# Altium schematic symbol library PCB-Tester-Board-V1.SCHLIB: 111 symbols (part 1 of 3)
Pins are listed as number, name and electrical type; pins without a type are passive.

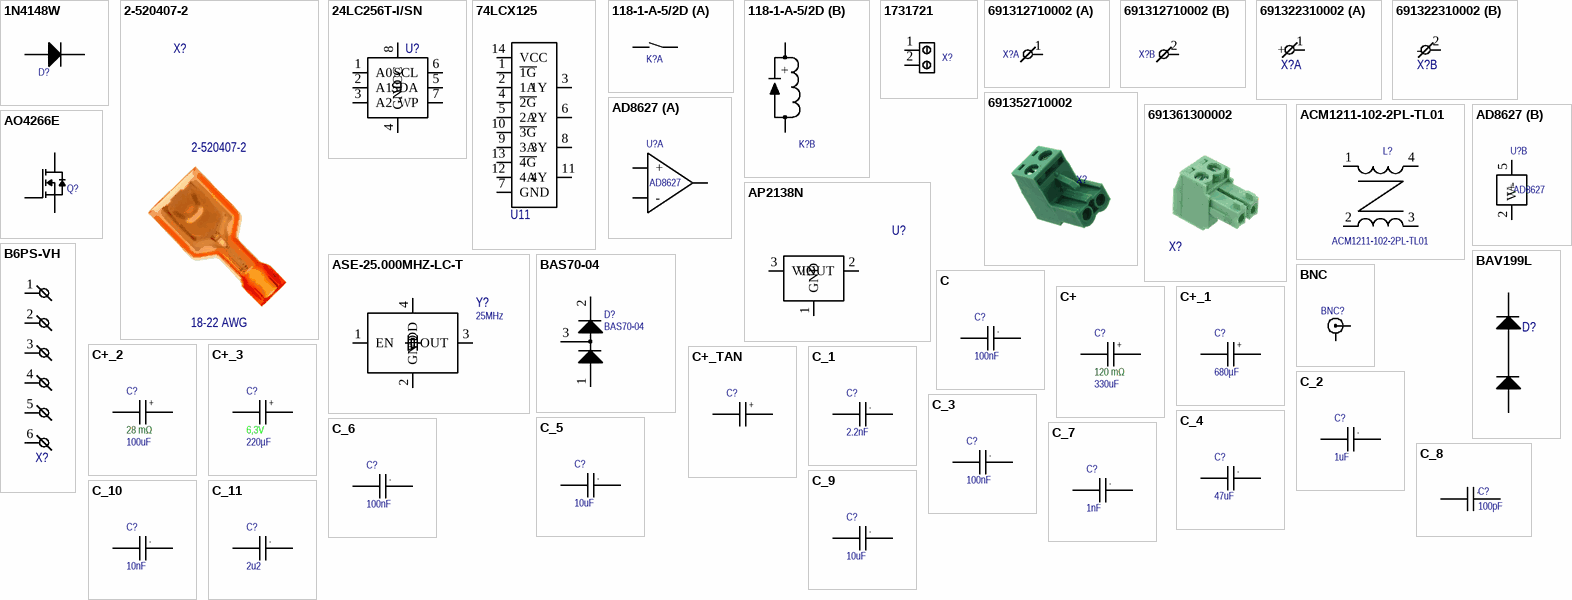
[diagram p0: symbols 1N4148W to C_11]

## 1N4148W
designator D?, comment D  (value not drawn)
DIODE SILICON 100V 2A SOD123; 07. Manufacturer  Part Number: 1N4148W; 11. RoHS: YES; ComponentLink1Description: Info; ComponentLink1URL: https://www.digikey.de/product-detail/en/nexperia-usa-inc/PMEG4050EP115/1727-5842-6-ND/2697559; ComponentLink2Description: DataSheet; ComponentLink2URL: https://assets.nexperia.com/documents/data-sheet/PMEG4050EP.pdf
footprint SOD123
pins: 1 A, 2 C

## 2-520407-2
designator X?  Package: 18-22 AWG  (hidden comment: 2-520407-2)
0.250" (6.35mm) Quick Connect Female; 04. Manufacturer: TE Connectivity AMP Connectors; 03. Unit Price: 0.38; 13. Created Date/Name: AUG 2018 / Hören; 01. Distributor: DigiKey; 02. Distributor Part Number: A27854-ND; 11. RoHS: YES; ComponentLink1Description: Info; ComponentLink1URL: https://www.digikey.de/products/en?keywords=2-520407-2; ComponentLink2Description: DataSheet; ComponentLink2URL: https://www.te.com/commerce/DocumentDelivery/DDEController?Action=srchrtrv&DocNm=520407&DocType=Customer+Drawing&DocLang=English; 07. Manufacturer  Part Number: 2-520407-2

## 24LC256T-I/SN
designator U?, comment U  (value not drawn)
IC EEPROM 256K I2C 400KHZ 8SOIC; 04. Manufacturer: Microchip Technology; 07. Manufacturer  Part Number: 24LC256T-I/SN; 03. Unit Price: 0.71; 13. Created Date/Name: AUG 2018 / Hören; 01. Distributor: DigiKey; 02. Distributor Part Number: 24LC256T-I/SNDKR-ND; 11. RoHS: YES; ComponentLink1Description: Info; ComponentLink1URL: https://www.digikey.de/product-detail/en/microchip-technology/24LC256T-I-SN/24LC256T-I-SNDKR-ND/1850685; ComponentLink2Description: DataSheet; ComponentLink2URL: http://ww1.microchip.com/downloads/en/DeviceDoc/24AA256-24LC256-24FC256-Data-Sheet-20001203W.pdf; Package: SOIC8
footprint SOIC8 (R-8) (Generic 8 lead SOIC Narrow Body)
pins: 1 A0, 2 A1, 3 A2, 4 GND (power), 5 SDA, 6 SCL, 7 WP, 8 VCC (power)

## 74LCX125
designator U11, comment U  (value not drawn)
IC BUF NON-INVERT 3.6V 14TSSOP; 04. Manufacturer: STMicroelectronics; 07. Manufacturer  Part Number: 74LCX125YTTR; 01. Distributor: DigiKey; 02. Distributor Part Number: 497-13204-2-ND; 11. RoHS: YES; ComponentLink1Description: Info; ComponentLink2Description: DataSheet; Package: TSSOP14
footprint TSSOP14
pins: 1 ~{1G}, 2 1A, 3 1Y, 4 ~{2G}, 5 2A, 6 2Y, 7 GND, 8 3Y, 9 3A, 10 ~{3G}, 11 4Y, 12 4A, 13 ~{4G}, 14 VCC

## 118-1-A-5/2D
designator K?, comment K  (value not drawn)
5V Signal Relais, Normal Open; 04. Manufacturer: Pickering; 07. Manufacturer  Part Number: 118-1-A-5/2D; 03. Unit Price: 2.60; 05. Quantity: 1000; 06. Data Sheet: Pickering_series_118.pdf; 13. Created Date/Name: 20.12.17 S. Kaiser; Coil Resistance: 1500 Ohm; Max Carry Current: 1.2 A; Max Switch Current: 1A; Max Switch Voltage: 200V; Power Rating: 15W; 01. Distributor: Pickering; 02. Distributor Part Number: 118-1-A-5/2D; 09. Operating Temperature: -20°C ~ +85°C; 11. RoHS: 2011/65/EU; ComponentLink1Description: Info; ComponentLink1URL: http://www.pickeringrelay.com/; ComponentLink2Description: DataSheet; ComponentLink2URL: https://www.pickeringrelay.com/products/single-line-sil-series-111-119/single-line-sil-series-118/; Coil Voltage: 5V
footprint 118-1A (ATE Relay (NO))
part A pins: 3 CA, 4 CB
part B pins: 1 +, 2 -
1 alternate drawing of the same symbol

## 1731721
designator X?, comment X  (value not drawn)
TERM BLK 2P SIDE ENT 7.62MM PCB; 04. Manufacturer: Phoenix Contact; 07. Manufacturer  Part Number: 1731721; 03. Unit Price: 2.12; 13. Created Date/Name: JAN 2019 / Hören; System: Connector; 01. Distributor: DigiKey; 02. Distributor Part Number: 277-5849-ND; 11. RoHS: YES; ComponentLink1Description: Info; ComponentLink1URL: https://www.digikey.de/products/en?keywords=1731721; ComponentLink2Description: DataSheet; ComponentLink2URL: https://media.digikey.com/pdf/Data%20Sheets/Phoenix%20Contact%20PDFs/1731721.pdf
footprint 1731721 (TERM BLK 2P SIDE ENT 7.62MM PCB)
pins: 1, 2

## 691312710002
designator X?, comment X  (value not drawn)
TERM BLOCK HDR 2POS 90DEG 5MM; 04. Manufacturer: Würth Elektronik; 07. Manufacturer  Part Number: 691312710002; 03. Unit Price: 0.244; 13. Created Date/Name: ??? / Hören; System: Connector; 01. Distributor: DigiKey; 02. Distributor Part Number: 732-2805-ND; ComponentLink1Description: Info; ComponentLink2Description: DataSheet
footprint 691312710002 (TERM BLOCK HDR 2POS 90DEG 5MM)
part A pins: 1 +
part B pins: 2 -

## 691322310002
designator X?, comment X  (value not drawn)
TERM BLOCK HDR 2POS 90DEG 3.81MM; 04. Manufacturer: Würth Elektronik; 07. Manufacturer  Part Number: 691322310002; 03. Unit Price: 0.32; 13. Created Date/Name: ??? / Hören; System: Connector; 01. Distributor: DigiKey; 02. Distributor Part Number: 732-2088-ND; 11. RoHS: YES; ComponentLink1Description: Info; ComponentLink1URL: https://www.digikey.de/products/en?keywords=691322310002; ComponentLink2Description: DataSheet; ComponentLink2URL: https://media.digikey.com/pdf/Data%20Sheets/Wurth%20Electronics%20PDFs/Terminal%20Blocks%20WR-TBL.pdf
footprint 691322310002 (TERM BLOCK HDR 2POS 90DEG 3.81MM)
part A pins: 1 +
part B pins: 2 -

## 691352710002
designator X?, comment X  (value not drawn)
TERM BLOCK PLUG 2POS STR 5MM; 13. Created Date/Name: ??? / Hören; System: Connector; ComponentLink1Description: Info; ComponentLink1URL: https://www.digikey.de/products/en?keywords=691352710002; ComponentLink2Description: DataSheet; ComponentLink2URL: https://www.we-online.de/katalog/datasheet/6913527100xx.pdf
footprint 691352710002 (TERM BLOCK PLUG 2POS STR 5MM)

## 691361300002
designator X?, comment X  (value not drawn)
TERM BLOCK PLUG 2POS STR 3.81MM; 13. Created Date/Name: ??? / Hören; System: Connector; ComponentLink1Description: Info; ComponentLink1URL: https://www.digikey.de/products/en?keywords=691361300002; ComponentLink2Description: DataSheet; ComponentLink2URL: https://media.digikey.com/pdf/Data%20Sheets/Wurth%20Electronics%20PDFs/Terminal%20Blocks%20WR-TBL.pdf
footprint 691361300002 (TERM BLOCK PLUG 2POS STR 3.81MM)

## ACM1211-102-2PL-TL01
designator L?, comment 07. Manufacturer  Part Number: ACM1211-102-2PL-TL01  (hidden comment: L)
CMC 6A 2LN 1 KOHM SMD; 04. Manufacturer: TDK; 03. Unit Price: 0.953; 05. Quantity: 500; 13. Created Date/Name: AUG 2018 / Hören; Type: Power Line; Voltage Rating: 80V; DCR: 14mOhm; 3D-Export: No; 01. Distributor: DigiKey; 02. Distributor Part Number: 445-2213-2-ND; 09. Operating Temperature: -40°C ~ 85°C; 11. RoHS: YES; ComponentLink1Description: Info; ComponentLink1URL: https://www.digikey.de/product-detail/en/tdk-corporation/ACM1211-102-2PL-TL01/445-2213-2-ND/765031; ComponentLink2Description: DataSheet; ComponentLink2URL: https://product.tdk.com/info/en/catalog/datasheets/cmf_commercial_power_acm1211_en.pdf; Current Rating: 6A
footprint ACM1211
pins: 1, 2, 3, 4

## AD8627
designator U?, comment Part: AD8627  (hidden comment: U)
IC OPAMP JFET 5MHZ RRO SC70-5; 04. Manufacturer: Analog Devices Inc.; 07. Manufacturer  Part Number: AD8627AKSZ-R2; 03. Unit Price: 5.15; 13. Created Date/Name: AUG 2018 / Hören; 01. Distributor: DigiKey; 02. Distributor Part Number: AD8627AKSZ-R2DKR-ND; 09. Operating Temperature: -40°C ~ 85°C; 11. RoHS: YES; ComponentLink1Description: Info; ComponentLink1URL: https://www.digikey.de/product-detail/en/analog-devices-inc/AD8627AKSZ-R2/AD8627AKSZ-R2DKR-ND/3878640; ComponentLink2Description: DataSheet; ComponentLink2URL: http://www.analog.com/media/en/technical-documentation/data-sheets/AD8625_8626_8627.pdf; Package: SC70-5
footprint SC70-5
simulation model AD8627 (Model Description)
part A pins: 1 Out, 3 +, 4 -
part B pins: 2 V-, 5 V+

## AO4266E
designator Q?, comment Q  (value not drawn)
MOSFET N-CH 60V 8.5A SO8; 04. Manufacturer: Alpha&Omega; 07. Manufacturer  Part Number: AO4266E; 11. RoHS: YES; ComponentLink1Description: Info; ComponentLink1URL: https://www.digikey.de/product-detail/en/on-semiconductor/FDV303N/FDV303NDKR-ND/1630434; ComponentLink2Description: DataSheet; ComponentLink2URL: https://media.digikey.com/pdf/Data%20Sheets/Fairchild%20PDFs/FDV303N.pdf
footprint SOIC-8_MOSFET (8 lead SOIC with pin numbering for MOSFET)
pins: 1 G, 2 S, 3 D

## AP2138N
designator U?, comment U  (value not drawn)
IC REG LINEAR 1.8V 250MA SOT23-3; 04. Manufacturer: Diodes Incorporated; 07. Manufacturer  Part Number: AP2138N-1.8TRG1; 01. Distributor: DigiKey; 02. Distributor Part Number: AP2138N-1.8TRG1DICT-ND; 11. RoHS: YES; ComponentLink1Description: Info; ComponentLink2Description: DataSheet
footprint SOT23-3
pins: 1 GND, 2 VOUT, 3 VIN

## ASE-25.000MHZ-LC-T
designator Y?, comment Frequency: 25MHz  (hidden comment: Y)
XTAL OSC XO 25.0000MHZ CMOS SMD; 04. Manufacturer: Abracon LLC; 07. Manufacturer  Part Number: ASE-25.000MHZ-LC-T; 03. Unit Price: 1.46; 13. Created Date/Name: AUG 2018 / Hören; 01. Distributor: DigiKey; 02. Distributor Part Number: 535-9568-1-ND; 11. RoHS: YES; ComponentLink1Description: Info; ComponentLink1URL: https://www.digikey.de/products/en?keywords=535-9568-1-ND; ComponentLink2Description: DataSheet; Package: 4SMD
footprint 4SMD
pins: 1 EN, 2 GND, 3 OUT, 4 VDD

## B6PS-VH
designator X?, comment X  (value not drawn)
CONN HEADER R/A 6POS 3.96MM; 04. Manufacturer: JST Sales America Inc.; 07. Manufacturer  Part Number: B6PS-VH(LF)(SN); 03. Unit Price: 0.38; 13. Created Date/Name: AUG 2018 / Hören; System: Connector; 01. Distributor: DigiKey; 02. Distributor Part Number: 455-1652-ND; 09. Operating Temperature: -25°C ~ 85°C; 11. RoHS: YES; ComponentLink1Description: Info; ComponentLink1URL: https://www.digikey.de/product-detail/en/jst-sales-america-inc/B6PS-VH-LF-SN/455-1652-ND/926559; ComponentLink2Description: DataSheet; ComponentLink2URL: http://www.jst-mfg.com/product/pdf/eng/eVH.pdf
footprint B6PS-VH (CONN HEADER R/A 6POS 3.96MM)
footprint B6PS-VH+ (CONN HEADER R/A 6POS 3.96MM + CONNECTOR)
pins: 1, 2, 3, 4, 5, 6

## BAS70-04
designator D?, comment 07. Manufacturer  Part Number: BAS70-04  (hidden comment: D)
DIODE ARRAY SCHOTTKY 70V SOT23-3; 04. Manufacturer: DIODES Inc; 03. Unit Price: 0.22; 05. Quantity: 1; 13. Created Date/Name: AUG 2018 / Hören; ComponentLink1Description: Info; ComponentLink1URL: https://www.digikey.de/products/en?keywords=BAS70-04-FDITR-ND; 01. Distributor: DigiKey; 02. Distributor Part Number: BAS70-04-FDITR-ND; 09. Operating Temperature: -55°C ~ 125°C; 11. RoHS: YES; ComponentLink4Description: DataSheet; ComponentLink4URL: https://www.diodes.com/assets/Datasheets/ds11007.pdf
footprint SOT23-3
pins: 1, 2, 3
1 alternate drawing of the same symbol

## BAV199L
designator D?, comment D  (value not drawn)
DIODE ARRAY GP 70V 215MA SOT23-3; 04. Manufacturer: ON Semiconductor; 07. Manufacturer  Part Number: BAV199LT1G; 03. Unit Price: 0.19; 13. Created Date/Name: AUG 2018 / Hören; NicName: BAV199L; 01. Distributor: DigiKey; 02. Distributor Part Number: BAV199LT1GOSDKR-ND; 09. Operating Temperature: -65°C ~ 150°C; 11. RoHS: YES; ComponentLink1Description: Info; ComponentLink1URL: https://www.digikey.de/product-detail/en/on-semiconductor/BAV199LT1G/BAV199LT1GOSDKR-ND/1831717; ComponentLink2Description: DataSheet; ComponentLink2URL: http://www.onsemi.com/pub/Collateral/BAV199LT1-D.PDF; Package: SOT23-3
footprint SOT23-3
pins: 1 A, 2 C, 3 C/A

## BNC
designator BNC?, comment X  (value not drawn)
BNC Connector; 07. Manufacturer  Part Number: [see model description]; 13. Created Date/Name: AUG 2018 / Hören; ComponentLink1Description: Info; 01. Distributor: DigiKey; ComponentLink2Description: DataSheet; ComponentLink3Description: FootPrint; System: Connector
footprint BNC (112778)
footprint BNC mini (0731000105)
pins: 0, 1

## C
designator C?  value 100nF  (hidden comment: C)
CAP CER 0.1UF 16V X7R 0402; 04. Manufacturer: KEMET; 07. Manufacturer  Part Number: C0402C104J4RACTU; Tolerance: ±5%; 03. Unit Price: 0.45; 13. Created Date/Name: AUG2018/Hören; Voltage Rating: 16V; Type: X7R; ComponentLink1Description: Info; ComponentLink1URL: https://www.digikey.de/product-detail/en/kemet/C0402C104J4RACTU/399-7761-6-ND/3472292; 02. Distributor Part Number: 399-7761-6-ND; 09. Operating Temperature: -55°C ~ 125°C; 11. RoHS: YES; 01. Distributor: DigiKey; ComponentLink2Description: DataSheet; ComponentLink2URL: https://content.kemet.com/datasheets/KEM_C1002_X7R_SMD.pdf; Package: 0402
simulation model CAP (Capacitor)
signal-integrity model Cap
footprint C0201 Reflow (SMT Capacitor 0201 Reflow Soldering)
footprint C0402 Reflow (SMT CAP 0402 Reflow Soldering)
footprint C0603 Reflow (SMT Capacitor 0603 Reflow Soldering)
footprint C0603 Wave (SMT Capacitor 0603 Wave Soldering)
footprint C0805 Reflow (SMT Capacitor 0805 Reflow Soldering)
footprint C0805 Wave (SMT Capacitor 0805 Wave Soldering)
footprint Model Name (Footprint not found)
footprint Model Name (Footprint not found)
footprint C1206 Reflow (SMT Capacitor 1206 Reflow Soldering)
footprint C1206 Wave (SMT Capacitor 1206 Wave Soldering)
footprint C1210 Reflow (SMT Capacitor 1210 Reflow Soldering)
footprint C1210 Wave (SMT Capacitor 1210 Wave Soldering)
footprint C1632 Reflow (SMT Capacitor 1632 Reflow Soldering)
footprint C1632 Wave (SMT Capacitor 1632 Wave Soldering)
footprint C1808 Reflow (SMT Capacitor 1808 Reflow Soldering)
footprint C1808 Wave (SMT Capacitor 1808 Wave Soldering)
footprint C1825 Reflow (SMT Capacitor 1825 Reflow Soldering)
footprint C1825 Wave (SMT Capacitor 1825 Wave Soldering)
footprint C2220 Reflow (SMT Capacitor 2220 Reflow Soldering)
footprint C2220 Wave (SMT Capacitor 2220 Wave Soldering)
footprint C2225 Reflow (SMT Capacitor 2225 Reflow Soldering)
footprint C2225 Wave (SMT Capacitor 2225 Wave Soldering)
pins: 1, 2
text: .

## C+
designator C?  value 330uF  ESR: 120 mΩ  (hidden comment: C+)
CAP ALUM 330UF 20% 50V SMD; 04. Manufacturer: Panasonic Electronic Components; 07. Manufacturer  Part Number: EEE-FT1H331AP; 03. Unit Price: 0.96; 13. Created Date/Name: AUG2018/Hören; 3D-Export: No; ComponentLink1Description: Info; ComponentLink1URL: https://www.digikey.de/product-detail/en/panasonic-electronic-components/EEE-FT1H331AP/PCE5026DKR-ND/2652105; Tolerance: ±20%; Voltage Rating: 50V; 02. Distributor Part Number: PCE5026DKR-ND; 09. Operating Temperature: -55°C ~ 105°C; 11. RoHS: YES; 01. Distributor: DigiKey; ComponentLink2Description: DataSheet; ComponentLink2URL: https://industrial.panasonic.com/cdbs/www-data/pdf/RDE0000/ABA0000C1240.pdf
simulation model CAP (Capacitor)
signal-integrity model Cap
footprint SMD-CAP-ALU-A (Ø3.0mm x 5.4mm)
footprint SMD-CAP-ALU-B (Ø4.0mm x 5.4mm)
footprint SMD-CAP-ALU-C (Ø5.0mm x 5.4mm)
footprint SMD-CAP-ALU-D (Ø6.3mm x 5.4mm)
footprint SMD-CAP-ALU-D8 (Ø6.3mm x 7.7mm)
footprint SMD-CAP-ALU-E (Ø8.0mm x 6.2mm)
footprint SMD-CAP-ALU-F (Ø8.0mm x 10.2mm)
footprint SMD-CAP-ALU-G (Ø10.0mm x 10.2mm)
footprint SMD-CAP-ALU-G13 (Ø10.0mm x 13.5mm)
footprint SMD-CAP-ALU-G17 (Ø10.0mm x 16.5mm)
footprint SMD-CAP-ALU-H16 (Ø12.5mm x 16.5mm)
footprint SMD-CAP-ALU-K16 (Ø18mm x 16.5mm)
pins: 1, 2
text: +

## C+_1
designator C?, comment value 680µF  (hidden comment: C+)
CAP ALUM 680UF 20% 50V SMD; 04. Manufacturer: Panasonic Electronic Components; 07. Manufacturer  Part Number: EEV-FK1H681M; ESR: 73 mΩ; Type: Radial, Can - SMD; 03. Unit Price: 1.69; 13. Created Date/Name: AUG2018/Hören; Lifetime @ Temp: 5000 Hrs @ 105°C; 3D-Export: No; ComponentLink1Description: Info; ComponentLink1URL: https://www.digikey.de/product-detail/en/panasonic-electronic-components/EEV-FK1H681M/PCE3523DKR-ND/1838505; Tolerance: ±20%; Voltage Rating: 50V; 02. Distributor Part Number: PCE3523DKR-ND; 09. Operating Temperature: -55°C ~ 105°C; 11. RoHS: YES; 01. Distributor: DigiKey; ComponentLink2Description: DataSheet; ComponentLink2URL: https://industrial.panasonic.com/cdbs/www-data/pdf/RDE0000/ABA0000C1181.pdf; Package: Ø16 mm x 16.5mm
simulation model CAP (Capacitor)
signal-integrity model Cap
footprint SMD-CAP-ALU-A (Ø3.0mm x 5.4mm)
footprint SMD-CAP-ALU-B (Ø4.0mm x 5.4mm)
footprint SMD-CAP-ALU-C (Ø5.0mm x 5.4mm)
footprint SMD-CAP-ALU-D (Ø6.3mm x 5.4mm)
footprint SMD-CAP-ALU-D8 (Ø6.3mm x 7.7mm)
footprint SMD-CAP-ALU-E (Ø8.0mm x 6.2mm)
footprint SMD-CAP-ALU-F (Ø8.0mm x 10.2mm)
footprint SMD-CAP-ALU-G (Ø10.0mm x 10.2mm)
footprint SMD-CAP-ALU-G13 (Ø10.0mm x 13.5mm)
footprint SMD-CAP-ALU-G17 (Ø10.0mm x 16.5mm)
footprint SMD-CAP-ALU-H16 (Ø12.5mm x 16.5mm)
footprint SMD-CAP-ALU-K16 (Ø18mm x 16.5mm)
footprint SMD-CAP-ALU-J16 (Ø16mm x 16.5mm)
pins: 1, 2
text: +

## C+_2
designator C?, comment value 100uF  ESR: 28 mΩ  (hidden comment: C+)
CAP ALUM POLY HYB 100UF 50V SMD; 04. Manufacturer: Panasonic Electronic Components; 07. Manufacturer  Part Number: EEH-ZA1H101P; Tolerance: ±20%; 03. Unit Price: 2.5; 13. Created Date/Name: AUG2018/Hören; 3D-Export: No; ComponentLink1Description: Info; ComponentLink1URL: https://www.digikey.de/product-detail/en/panasonic-electronic-components/EEH-ZA1H101P/P15442DKR-ND/3088152; Voltage Rating: 50V; 02. Distributor Part Number: P15442DKR-ND; 09. Operating Temperature: -55°C ~ 105°C; 11. RoHS: YES; 01. Distributor: DigiKey; ComponentLink2Description: DataSheet; ComponentLink2URL: https://industrial.panasonic.com/cdbs/www-data/pdf/RDD0000/ABA0000C1221.pdf
simulation model CAP (Capacitor)
signal-integrity model Cap
footprint SMD-CAP-ALU-A (Ø3.0mm x 5.4mm)
footprint SMD-CAP-ALU-B (Ø4.0mm x 5.4mm)
footprint SMD-CAP-ALU-C (Ø5.0mm x 5.4mm)
footprint SMD-CAP-ALU-D (Ø6.3mm x 5.4mm)
footprint SMD-CAP-ALU-D8 (Ø6.3mm x 7.7mm)
footprint SMD-CAP-ALU-E (Ø8.0mm x 6.2mm)
footprint SMD-CAP-ALU-F (Ø8.0mm x 10.2mm)
footprint SMD-CAP-ALU-G (Ø10.0mm x 10.2mm)
footprint SMD-CAP-ALU-G13 (Ø10.0mm x 13.5mm)
footprint SMD-CAP-ALU-G17 (Ø10.0mm x 16.5mm)
footprint SMD-CAP-ALU-H16 (Ø12.5mm x 16.5mm)
footprint SMD-CAP-ALU-K16 (Ø18mm x 16.5mm)
pins: 1, 2
text: +

## C+_3
designator C?, comment value 220µF  Voltage Rating: 6,3V  (hidden comment: C+)
CAP ALUM 220UF 20% 6.3V SMD; 04. Manufacturer: Panasonic Electronic Components; 07. Manufacturer  Part Number: EEE-FC0J221P; ESR: 400 mΩ; Type: Radial, Can - SMD; 03. Unit Price: 0.57; 13. Created Date/Name: AUG2018/Hören; Lifetime @ Temp: 1000 Hrs @ 105°C; 3D-Export: No; ComponentLink1Description: Info; ComponentLink1URL: https://www.digikey.de/product-detail/en/panasonic-electronic-components/EEE-FC0J221P/PCE3985DKR-ND/1806511; Tolerance: ±20%; 02. Distributor Part Number: PCE3985DKR-ND; 09. Operating Temperature: -40°C ~ 105°C; 11. RoHS: YES; 01. Distributor: DigiKey; ComponentLink2Description: DataSheet; ComponentLink2URL: https://industrial.panasonic.com/cdbs/www-data/pdf/RDE0000/ABA0000C1172.pdf; Package: Ø8mm x 6.2mm
simulation model CAP (Capacitor)
signal-integrity model Cap
footprint SMD-CAP-ALU-A (Ø3.0mm x 5.4mm)
footprint SMD-CAP-ALU-B (Ø4.0mm x 5.4mm)
footprint SMD-CAP-ALU-C (Ø5.0mm x 5.4mm)
footprint SMD-CAP-ALU-D (Ø6.3mm x 5.4mm)
footprint SMD-CAP-ALU-D8 (Ø6.3mm x 7.7mm)
footprint SMD-CAP-ALU-E (Ø8.0mm x 6.2mm)
footprint SMD-CAP-ALU-F (Ø8.0mm x 10.2mm)
footprint SMD-CAP-ALU-G (Ø10.0mm x 10.2mm)
footprint SMD-CAP-ALU-G13 (Ø10.0mm x 13.5mm)
footprint SMD-CAP-ALU-G17 (Ø10.0mm x 16.5mm)
footprint SMD-CAP-ALU-H16 (Ø12.5mm x 16.5mm)
footprint SMD-CAP-ALU-K16 (Ø18mm x 16.5mm)
pins: 1, 2
text: +

## C+_TAN
designator C?, comment C+  (value not drawn)
3D-Export: No; ComponentLink1Description: Info; 11. RoHS: YES; 01. Distributor: DigiKey; ComponentLink2Description: DataSheet
footprint CAP_TAN_B (Tantalum capacitor in case B)
pins: 1, 2
text: +

## C_1
designator C?, comment value 2.2nF  (hidden comment: C)
CAP CER 2200PF 50V X7R 0402; 04. Manufacturer: Samsung Electro-Mechanics; 07. Manufacturer  Part Number: CL05B222JB5NNNC; Tolerance: ±5%; 03. Unit Price: 0.09; 13. Created Date/Name: AUG2018/Hören; Voltage Rating: 50V; Type: X7R; ComponentLink1Description: Info; ComponentLink1URL: https://www.digikey.de/product-detail/en/samsung-electro-mechanics/CL05B222JB5NNNC/1276-1532-6-ND/3892046; 02. Distributor Part Number: 1276-1532-6-ND; 09. Operating Temperature: -55°C ~ 125°C; 11. RoHS: YES; 01. Distributor: DigiKey; ComponentLink2Description: DataSheet; Package: 0402
simulation model CAP (Capacitor)
signal-integrity model Cap
footprint C0201 Reflow (SMT Capacitor 0201 Reflow Soldering)
footprint C0402 Reflow (SMT CAP 0402 Reflow Soldering)
footprint C0603 Reflow (SMT Capacitor 0603 Reflow Soldering)
footprint C0603 Wave (SMT Capacitor 0603 Wave Soldering)
footprint C0805 Reflow (SMT Capacitor 0805 Reflow Soldering)
footprint C0805 Wave (SMT Capacitor 0805 Wave Soldering)
footprint Model Name (Footprint not found)
footprint Model Name (Footprint not found)
footprint C1206 Reflow (SMT Capacitor 1206 Reflow Soldering)
footprint C1206 Wave (SMT Capacitor 1206 Wave Soldering)
footprint C1210 Reflow (SMT Capacitor 1210 Reflow Soldering)
footprint C1210 Wave (SMT Capacitor 1210 Wave Soldering)
footprint C1632 Reflow (SMT Capacitor 1632 Reflow Soldering)
footprint C1632 Wave (SMT Capacitor 1632 Wave Soldering)
footprint C1808 Reflow (SMT Capacitor 1808 Reflow Soldering)
footprint C1808 Wave (SMT Capacitor 1808 Wave Soldering)
footprint C1825 Reflow (SMT Capacitor 1825 Reflow Soldering)
footprint C1825 Wave (SMT Capacitor 1825 Wave Soldering)
footprint C2220 Reflow (SMT Capacitor 2220 Reflow Soldering)
footprint C2220 Wave (SMT Capacitor 2220 Wave Soldering)
footprint C2225 Reflow (SMT Capacitor 2225 Reflow Soldering)
footprint C2225 Wave (SMT Capacitor 2225 Wave Soldering)
pins: 1, 2
text: .

## C_2
designator C?, comment value 1uF  (hidden comment: C)
CAP CER 1UF 6.3V X7R 0402; 04. Manufacturer: Murata Electronics; 07. Manufacturer  Part Number: GRM155R70J105KA12J; Tolerance: ±10%; 03. Unit Price: 0.11; 13. Created Date/Name: AUG2018/Hören; Voltage Rating: 6.3V; Type: X7R; ComponentLink1Description: Info; ComponentLink1URL: https://www.digikey.de/product-detail/en/murata-electronics/GRM155R70J105KA12J/490-13339-6-ND/5973468; 02. Distributor Part Number: 490-13339-6-ND; 09. Operating Temperature: -55°C ~ 125°C; 11. RoHS: YES; 01. Distributor: DigiKey; ComponentLink2Description: DataSheet; Package: 0402
simulation model CAP (Capacitor)
signal-integrity model Cap
footprint C0201 Reflow (SMT Capacitor 0201 Reflow Soldering)
footprint C0402 Reflow (SMT CAP 0402 Reflow Soldering)
footprint C0603 Reflow (SMT Capacitor 0603 Reflow Soldering)
footprint C0603 Wave (SMT Capacitor 0603 Wave Soldering)
footprint C0805 Reflow (SMT Capacitor 0805 Reflow Soldering)
footprint C0805 Wave (SMT Capacitor 0805 Wave Soldering)
footprint Model Name (Footprint not found)
footprint Model Name (Footprint not found)
footprint C1206 Reflow (SMT Capacitor 1206 Reflow Soldering)
footprint C1206 Wave (SMT Capacitor 1206 Wave Soldering)
footprint C1210 Reflow (SMT Capacitor 1210 Reflow Soldering)
footprint C1210 Wave (SMT Capacitor 1210 Wave Soldering)
footprint C1632 Reflow (SMT Capacitor 1632 Reflow Soldering)
footprint C1632 Wave (SMT Capacitor 1632 Wave Soldering)
footprint C1808 Reflow (SMT Capacitor 1808 Reflow Soldering)
footprint C1808 Wave (SMT Capacitor 1808 Wave Soldering)
footprint C1825 Reflow (SMT Capacitor 1825 Reflow Soldering)
footprint C1825 Wave (SMT Capacitor 1825 Wave Soldering)
footprint C2220 Reflow (SMT Capacitor 2220 Reflow Soldering)
footprint C2220 Wave (SMT Capacitor 2220 Wave Soldering)
footprint C2225 Reflow (SMT Capacitor 2225 Reflow Soldering)
footprint C2225 Wave (SMT Capacitor 2225 Wave Soldering)
pins: 1, 2
text: .

## C_3
designator C?, comment value 100nF  (hidden comment: C)
Capacitor Unpolarized; Tolerance: ±20%; 13. Created Date/Name: AUG2018/Hören; ComponentLink1Description: Info; ComponentLink1URL: *; 09. Operating Temperature: -xx..+yy°C; 11. RoHS: ???; ComponentLink2Description: DataSheet
simulation model CAP (Capacitor)
signal-integrity model Cap
footprint C0201 Reflow (SMT Capacitor 0201 Reflow Soldering)
footprint C0402 Reflow (SMT CAP 0402 Reflow Soldering)
footprint C0603 Reflow (SMT Capacitor 0603 Reflow Soldering)
footprint C0603 Wave (SMT Capacitor 0603 Wave Soldering)
footprint C0805 Reflow (SMT Capacitor 0805 Reflow Soldering)
footprint C0805 Wave (SMT Capacitor 0805 Wave Soldering)
footprint Model Name (Footprint not found)
footprint Model Name (Footprint not found)
footprint C1206 Reflow (SMT Capacitor 1206 Reflow Soldering)
footprint C1206 Wave (SMT Capacitor 1206 Wave Soldering)
footprint C1210 Reflow (SMT Capacitor 1210 Reflow Soldering)
footprint C1210 Wave (SMT Capacitor 1210 Wave Soldering)
footprint C1632 Reflow (SMT Capacitor 1632 Reflow Soldering)
footprint C1632 Wave (SMT Capacitor 1632 Wave Soldering)
footprint C1808 Reflow (SMT Capacitor 1808 Reflow Soldering)
footprint C1808 Wave (SMT Capacitor 1808 Wave Soldering)
footprint C1825 Reflow (SMT Capacitor 1825 Reflow Soldering)
footprint C1825 Wave (SMT Capacitor 1825 Wave Soldering)
footprint C2220 Reflow (SMT Capacitor 2220 Reflow Soldering)
footprint C2220 Wave (SMT Capacitor 2220 Wave Soldering)
footprint C2225 Reflow (SMT Capacitor 2225 Reflow Soldering)
footprint C2225 Wave (SMT Capacitor 2225 Wave Soldering)
pins: 1, 2
text: .

## C_4
designator C?, comment value 47uF  (hidden comment: C)
CAP CER 47UF 10V X5R 1210; 04. Manufacturer: Samsung Electro-Mechanics; 07. Manufacturer  Part Number: CL32A476MPJNNNE; Tolerance: ±20%; 03. Unit Price: 0.88; 13. Created Date/Name: AUG2018/Hören; Voltage Rating: 10V; Type: X5R; ComponentLink1Description: Info; ComponentLink1URL: *; 02. Distributor Part Number: 1276-3380-6-ND; 09. Operating Temperature: -55°C ~ 85°C; 11. RoHS: YES; 01. Distributor: DigiKey; ComponentLink2Description: DataSheet; Package: 1210
simulation model CAP (Capacitor)
signal-integrity model Cap
footprint C0201 Reflow (SMT Capacitor 0201 Reflow Soldering)
footprint C0402 Reflow (SMT CAP 0402 Reflow Soldering)
footprint C0603 Reflow (SMT Capacitor 0603 Reflow Soldering)
footprint C0603 Wave (SMT Capacitor 0603 Wave Soldering)
footprint C0805 Reflow (SMT Capacitor 0805 Reflow Soldering)
footprint C0805 Wave (SMT Capacitor 0805 Wave Soldering)
footprint Model Name (Footprint not found)
footprint Model Name (Footprint not found)
footprint C1206 Reflow (SMT Capacitor 1206 Reflow Soldering)
footprint C1206 Wave (SMT Capacitor 1206 Wave Soldering)
footprint C1210 Reflow (SMT Capacitor 1210 Reflow Soldering)
footprint C1210 Wave (SMT Capacitor 1210 Wave Soldering)
footprint C1632 Reflow (SMT Capacitor 1632 Reflow Soldering)
footprint C1632 Wave (SMT Capacitor 1632 Wave Soldering)
footprint C1808 Reflow (SMT Capacitor 1808 Reflow Soldering)
footprint C1808 Wave (SMT Capacitor 1808 Wave Soldering)
footprint C1825 Reflow (SMT Capacitor 1825 Reflow Soldering)
footprint C1825 Wave (SMT Capacitor 1825 Wave Soldering)
footprint C2220 Reflow (SMT Capacitor 2220 Reflow Soldering)
footprint C2220 Wave (SMT Capacitor 2220 Wave Soldering)
footprint C2225 Reflow (SMT Capacitor 2225 Reflow Soldering)
footprint C2225 Wave (SMT Capacitor 2225 Wave Soldering)
pins: 1, 2
text: .

## C_5
designator C?, comment value 10uF  (hidden comment: C)
CAP CER 10UF 25V X7R 1206; 04. Manufacturer: TDK Corporation; 07. Manufacturer  Part Number: C3216X7R1E106K160AB; Tolerance: ±10%; 03. Unit Price: 0.66; 13. Created Date/Name: AUG2018/Hören; Voltage Rating: 25V; Type: X7R; ComponentLink1Description: Info; ComponentLink1URL: https://www.digikey.de/products/en?keywords=445-7705-6-ND; 02. Distributor Part Number: 445-7705-6-ND; 09. Operating Temperature: -55°C ~ 125°C; 11. RoHS: YES; 01. Distributor: DigiKey; ComponentLink2Description: DataSheet; Package: 1206
simulation model CAP (Capacitor)
signal-integrity model Cap
footprint C0201 Reflow (SMT Capacitor 0201 Reflow Soldering)
footprint C0402 Reflow (SMT CAP 0402 Reflow Soldering)
footprint C0603 Reflow (SMT Capacitor 0603 Reflow Soldering)
footprint C0603 Wave (SMT Capacitor 0603 Wave Soldering)
footprint C0805 Reflow (SMT Capacitor 0805 Reflow Soldering)
footprint C0805 Wave (SMT Capacitor 0805 Wave Soldering)
footprint Model Name (Footprint not found)
footprint Model Name (Footprint not found)
footprint C1206 Reflow (SMT Capacitor 1206 Reflow Soldering)
footprint C1206 Wave (SMT Capacitor 1206 Wave Soldering)
footprint C1210 Reflow (SMT Capacitor 1210 Reflow Soldering)
footprint C1210 Wave (SMT Capacitor 1210 Wave Soldering)
footprint C1632 Reflow (SMT Capacitor 1632 Reflow Soldering)
footprint C1632 Wave (SMT Capacitor 1632 Wave Soldering)
footprint C1808 Reflow (SMT Capacitor 1808 Reflow Soldering)
footprint C1808 Wave (SMT Capacitor 1808 Wave Soldering)
footprint C1825 Reflow (SMT Capacitor 1825 Reflow Soldering)
footprint C1825 Wave (SMT Capacitor 1825 Wave Soldering)
footprint C2220 Reflow (SMT Capacitor 2220 Reflow Soldering)
footprint C2220 Wave (SMT Capacitor 2220 Wave Soldering)
footprint C2225 Reflow (SMT Capacitor 2225 Reflow Soldering)
footprint C2225 Wave (SMT Capacitor 2225 Wave Soldering)
pins: 1, 2
text: .

## C_6
designator C?, comment value 100nF  (hidden comment: C)
CAP CER 0.1UF 25V X7R 0402; 04. Manufacturer: Yageo; 07. Manufacturer  Part Number: CC0402KRX7R8BB104; Tolerance: ±10%; 03. Unit Price: 0.09; 13. Created Date/Name: AUG2018/Hören; Voltage Rating: 25V; Type: X7R; ComponentLink1Description: Info; ComponentLink1URL: https://www.digikey.de/products/en?keywords=311-2077-6-ND; 02. Distributor Part Number: 311-2077-6-ND; 09. Operating Temperature: -55°C ~ 125°C; 11. RoHS: YES; 01. Distributor: DigiKey; ComponentLink2Description: DataSheet; Package: 0402
simulation model CAP (Capacitor)
signal-integrity model Cap
footprint C0201 Reflow (SMT Capacitor 0201 Reflow Soldering)
footprint C0402 Reflow (SMT CAP 0402 Reflow Soldering)
footprint C0603 Reflow (SMT Capacitor 0603 Reflow Soldering)
footprint C0603 Wave (SMT Capacitor 0603 Wave Soldering)
footprint C0805 Reflow (SMT Capacitor 0805 Reflow Soldering)
footprint C0805 Wave (SMT Capacitor 0805 Wave Soldering)
footprint Model Name (Footprint not found)
footprint Model Name (Footprint not found)
footprint C1206 Reflow (SMT Capacitor 1206 Reflow Soldering)
footprint C1206 Wave (SMT Capacitor 1206 Wave Soldering)
footprint C1210 Reflow (SMT Capacitor 1210 Reflow Soldering)
footprint C1210 Wave (SMT Capacitor 1210 Wave Soldering)
footprint C1632 Reflow (SMT Capacitor 1632 Reflow Soldering)
footprint C1632 Wave (SMT Capacitor 1632 Wave Soldering)
footprint C1808 Reflow (SMT Capacitor 1808 Reflow Soldering)
footprint C1808 Wave (SMT Capacitor 1808 Wave Soldering)
footprint C1825 Reflow (SMT Capacitor 1825 Reflow Soldering)
footprint C1825 Wave (SMT Capacitor 1825 Wave Soldering)
footprint C2220 Reflow (SMT Capacitor 2220 Reflow Soldering)
footprint C2220 Wave (SMT Capacitor 2220 Wave Soldering)
footprint C2225 Reflow (SMT Capacitor 2225 Reflow Soldering)
footprint C2225 Wave (SMT Capacitor 2225 Wave Soldering)
pins: 1, 2
text: .

## C_7
designator C?, comment value 1nF  (hidden comment: C)
CAP CER 1000PF 25V X7R 0402; 04. Manufacturer: KEMET; 07. Manufacturer  Part Number: C0402C102K3RACTU; Tolerance: ±10%; 03. Unit Price: 0.09; 13. Created Date/Name: AUG2018/Hören; Voltage Rating: 25V; Type: X7R; ComponentLink1Description: Info; ComponentLink1URL: https://www.digikey.de/products/en?keywords=399-1031-6-ND; 02. Distributor Part Number: 399-1031-6-ND; 09. Operating Temperature: -55°C ~ 125°C; 11. RoHS: YES; 01. Distributor: DigiKey; ComponentLink2Description: DataSheet; Package: 0402
simulation model CAP (Capacitor)
signal-integrity model Cap
footprint C0201 Reflow (SMT Capacitor 0201 Reflow Soldering)
footprint C0402 Reflow (SMT CAP 0402 Reflow Soldering)
footprint C0603 Reflow (SMT Capacitor 0603 Reflow Soldering)
footprint C0603 Wave (SMT Capacitor 0603 Wave Soldering)
footprint C0805 Reflow (SMT Capacitor 0805 Reflow Soldering)
footprint C0805 Wave (SMT Capacitor 0805 Wave Soldering)
footprint Model Name (Footprint not found)
footprint Model Name (Footprint not found)
footprint C1206 Reflow (SMT Capacitor 1206 Reflow Soldering)
footprint C1206 Wave (SMT Capacitor 1206 Wave Soldering)
footprint C1210 Reflow (SMT Capacitor 1210 Reflow Soldering)
footprint C1210 Wave (SMT Capacitor 1210 Wave Soldering)
footprint C1632 Reflow (SMT Capacitor 1632 Reflow Soldering)
footprint C1632 Wave (SMT Capacitor 1632 Wave Soldering)
footprint C1808 Reflow (SMT Capacitor 1808 Reflow Soldering)
footprint C1808 Wave (SMT Capacitor 1808 Wave Soldering)
footprint C1825 Reflow (SMT Capacitor 1825 Reflow Soldering)
footprint C1825 Wave (SMT Capacitor 1825 Wave Soldering)
footprint C2220 Reflow (SMT Capacitor 2220 Reflow Soldering)
footprint C2220 Wave (SMT Capacitor 2220 Wave Soldering)
footprint C2225 Reflow (SMT Capacitor 2225 Reflow Soldering)
footprint C2225 Wave (SMT Capacitor 2225 Wave Soldering)
pins: 1, 2
text: .

## C_8
designator C?, comment value 100pF  (hidden comment: C)
CAP CER 100PF 25V C0G/NP0 0402; 04. Manufacturer: KEMET; 07. Manufacturer  Part Number: C0402C101J3GACTU; Tolerance: ±5%; Type: C0G, NP0; 03. Unit Price: 0.09; 13. Created Date/Name: AUG2018/Hören; Voltage Rating: 25V; ComponentLink1Description: Info; ComponentLink1URL: https://www.digikey.de/products/en?keywords=399-1022-6-ND; 02. Distributor Part Number: 399-1022-6-ND; 09. Operating Temperature: -55°C ~ 125°C; 11. RoHS: YES; 01. Distributor: DigiKey; ComponentLink2Description: DataSheet; Package: 0402
simulation model CAP (Capacitor)
signal-integrity model Cap
footprint C0201 Reflow (SMT Capacitor 0201 Reflow Soldering)
footprint C0402 Reflow (SMT CAP 0402 Reflow Soldering)
footprint C0603 Reflow (SMT Capacitor 0603 Reflow Soldering)
footprint C0603 Wave (SMT Capacitor 0603 Wave Soldering)
footprint C0805 Reflow (SMT Capacitor 0805 Reflow Soldering)
footprint C0805 Wave (SMT Capacitor 0805 Wave Soldering)
footprint Model Name (Footprint not found)
footprint Model Name (Footprint not found)
footprint C1206 Reflow (SMT Capacitor 1206 Reflow Soldering)
footprint C1206 Wave (SMT Capacitor 1206 Wave Soldering)
footprint C1210 Reflow (SMT Capacitor 1210 Reflow Soldering)
footprint C1210 Wave (SMT Capacitor 1210 Wave Soldering)
footprint C1632 Reflow (SMT Capacitor 1632 Reflow Soldering)
footprint C1632 Wave (SMT Capacitor 1632 Wave Soldering)
footprint C1808 Reflow (SMT Capacitor 1808 Reflow Soldering)
footprint C1808 Wave (SMT Capacitor 1808 Wave Soldering)
footprint C1825 Reflow (SMT Capacitor 1825 Reflow Soldering)
footprint C1825 Wave (SMT Capacitor 1825 Wave Soldering)
footprint C2220 Reflow (SMT Capacitor 2220 Reflow Soldering)
footprint C2220 Wave (SMT Capacitor 2220 Wave Soldering)
footprint C2225 Reflow (SMT Capacitor 2225 Reflow Soldering)
footprint C2225 Wave (SMT Capacitor 2225 Wave Soldering)
pins: 1, 2
text: .

## C_9
designator C?, comment value 10uF  (hidden comment: C)
CAP CER 10UF 10V X7R 0805; 04. Manufacturer: Samsung Electro-Mechanics; 07. Manufacturer  Part Number: CL21B106KPQNNNE; Tolerance: ±10%; 03. Unit Price: 0.24; 13. Created Date/Name: AUG2018/Hören; Voltage Rating: 10V; Type: X7R; ComponentLink1Description: Info; ComponentLink1URL: https://www.digikey.de/products/en?keywords=1276-1764-6-ND; 02. Distributor Part Number: 1276-1764-6-ND; 09. Operating Temperature: -55°C ~ 125°C; 11. RoHS: YES; 01. Distributor: DigiKey; ComponentLink2Description: DataSheet; Package: 0805
simulation model CAP (Capacitor)
signal-integrity model Cap
footprint C0201 Reflow (SMT Capacitor 0201 Reflow Soldering)
footprint C0402 Reflow (SMT CAP 0402 Reflow Soldering)
footprint C0603 Reflow (SMT Capacitor 0603 Reflow Soldering)
footprint C0603 Wave (SMT Capacitor 0603 Wave Soldering)
footprint C0805 Reflow (SMT Capacitor 0805 Reflow Soldering)
footprint C0805 Wave (SMT Capacitor 0805 Wave Soldering)
footprint Model Name (Footprint not found)
footprint Model Name (Footprint not found)
footprint C1206 Reflow (SMT Capacitor 1206 Reflow Soldering)
footprint C1206 Wave (SMT Capacitor 1206 Wave Soldering)
footprint C1210 Reflow (SMT Capacitor 1210 Reflow Soldering)
footprint C1210 Wave (SMT Capacitor 1210 Wave Soldering)
footprint C1632 Reflow (SMT Capacitor 1632 Reflow Soldering)
footprint C1632 Wave (SMT Capacitor 1632 Wave Soldering)
footprint C1808 Reflow (SMT Capacitor 1808 Reflow Soldering)
footprint C1808 Wave (SMT Capacitor 1808 Wave Soldering)
footprint C1825 Reflow (SMT Capacitor 1825 Reflow Soldering)
footprint C1825 Wave (SMT Capacitor 1825 Wave Soldering)
footprint C2220 Reflow (SMT Capacitor 2220 Reflow Soldering)
footprint C2220 Wave (SMT Capacitor 2220 Wave Soldering)
footprint C2225 Reflow (SMT Capacitor 2225 Reflow Soldering)
footprint C2225 Wave (SMT Capacitor 2225 Wave Soldering)
pins: 1, 2
text: .

## C_10
designator C?, comment value 10nF  (hidden comment: C)
CAP CER 0.01UF 25V X7R 0402; Tolerance: ±10%; Voltage Rating: 25V; Type: X7R; ComponentLink1Description: Info; ComponentLink1URL: https://www.digikey.de/products/en?keywords=311-2077-6-ND; 11. RoHS: YES; ComponentLink2Description: DataSheet; Package: 0402
simulation model CAP (Capacitor)
signal-integrity model Cap
footprint C0201 Reflow (SMT Capacitor 0201 Reflow Soldering)
footprint C0402 Reflow (SMT CAP 0402 Reflow Soldering)
footprint C0603 Reflow (SMT Capacitor 0603 Reflow Soldering)
footprint C0603 Wave (SMT Capacitor 0603 Wave Soldering)
footprint C0805 Reflow (SMT Capacitor 0805 Reflow Soldering)
footprint C0805 Wave (SMT Capacitor 0805 Wave Soldering)
footprint Model Name (Footprint not found)
footprint Model Name (Footprint not found)
footprint C1206 Reflow (SMT Capacitor 1206 Reflow Soldering)
footprint C1206 Wave (SMT Capacitor 1206 Wave Soldering)
footprint C1210 Reflow (SMT Capacitor 1210 Reflow Soldering)
footprint C1210 Wave (SMT Capacitor 1210 Wave Soldering)
footprint C1632 Reflow (SMT Capacitor 1632 Reflow Soldering)
footprint C1632 Wave (SMT Capacitor 1632 Wave Soldering)
footprint C1808 Reflow (SMT Capacitor 1808 Reflow Soldering)
footprint C1808 Wave (SMT Capacitor 1808 Wave Soldering)
footprint C1825 Reflow (SMT Capacitor 1825 Reflow Soldering)
footprint C1825 Wave (SMT Capacitor 1825 Wave Soldering)
footprint C2220 Reflow (SMT Capacitor 2220 Reflow Soldering)
footprint C2220 Wave (SMT Capacitor 2220 Wave Soldering)
footprint C2225 Reflow (SMT Capacitor 2225 Reflow Soldering)
footprint C2225 Wave (SMT Capacitor 2225 Wave Soldering)
pins: 1, 2
text: .

## C_11
designator C?, comment value 2u2  (hidden comment: C)
CAP CER 2.2UF 10V X7R 0805; Voltage Rating: 10V; Type: X7R; ComponentLink1Description: Info; ComponentLink1URL: https://www.digikey.de/products/en?keywords=311-2077-6-ND; 11. RoHS: YES; ComponentLink2Description: DataSheet; Package: 0805
simulation model CAP (Capacitor)
signal-integrity model Cap
footprint C0201 Reflow (SMT Capacitor 0201 Reflow Soldering)
footprint C0402 Reflow (SMT CAP 0402 Reflow Soldering)
footprint C0603 Reflow (SMT Capacitor 0603 Reflow Soldering)
footprint C0603 Wave (SMT Capacitor 0603 Wave Soldering)
footprint C0805 Reflow (SMT Capacitor 0805 Reflow Soldering)
footprint C0805 Wave (SMT Capacitor 0805 Wave Soldering)
footprint Model Name (Footprint not found)
footprint Model Name (Footprint not found)
footprint C1206 Reflow (SMT Capacitor 1206 Reflow Soldering)
footprint C1206 Wave (SMT Capacitor 1206 Wave Soldering)
footprint C1210 Reflow (SMT Capacitor 1210 Reflow Soldering)
footprint C1210 Wave (SMT Capacitor 1210 Wave Soldering)
footprint C1632 Reflow (SMT Capacitor 1632 Reflow Soldering)
footprint C1632 Wave (SMT Capacitor 1632 Wave Soldering)
footprint C1808 Reflow (SMT Capacitor 1808 Reflow Soldering)
footprint C1808 Wave (SMT Capacitor 1808 Wave Soldering)
footprint C1825 Reflow (SMT Capacitor 1825 Reflow Soldering)
footprint C1825 Wave (SMT Capacitor 1825 Wave Soldering)
footprint C2220 Reflow (SMT Capacitor 2220 Reflow Soldering)
footprint C2220 Wave (SMT Capacitor 2220 Wave Soldering)
footprint C2225 Reflow (SMT Capacitor 2225 Reflow Soldering)
footprint C2225 Wave (SMT Capacitor 2225 Wave Soldering)
pins: 1, 2
text: .

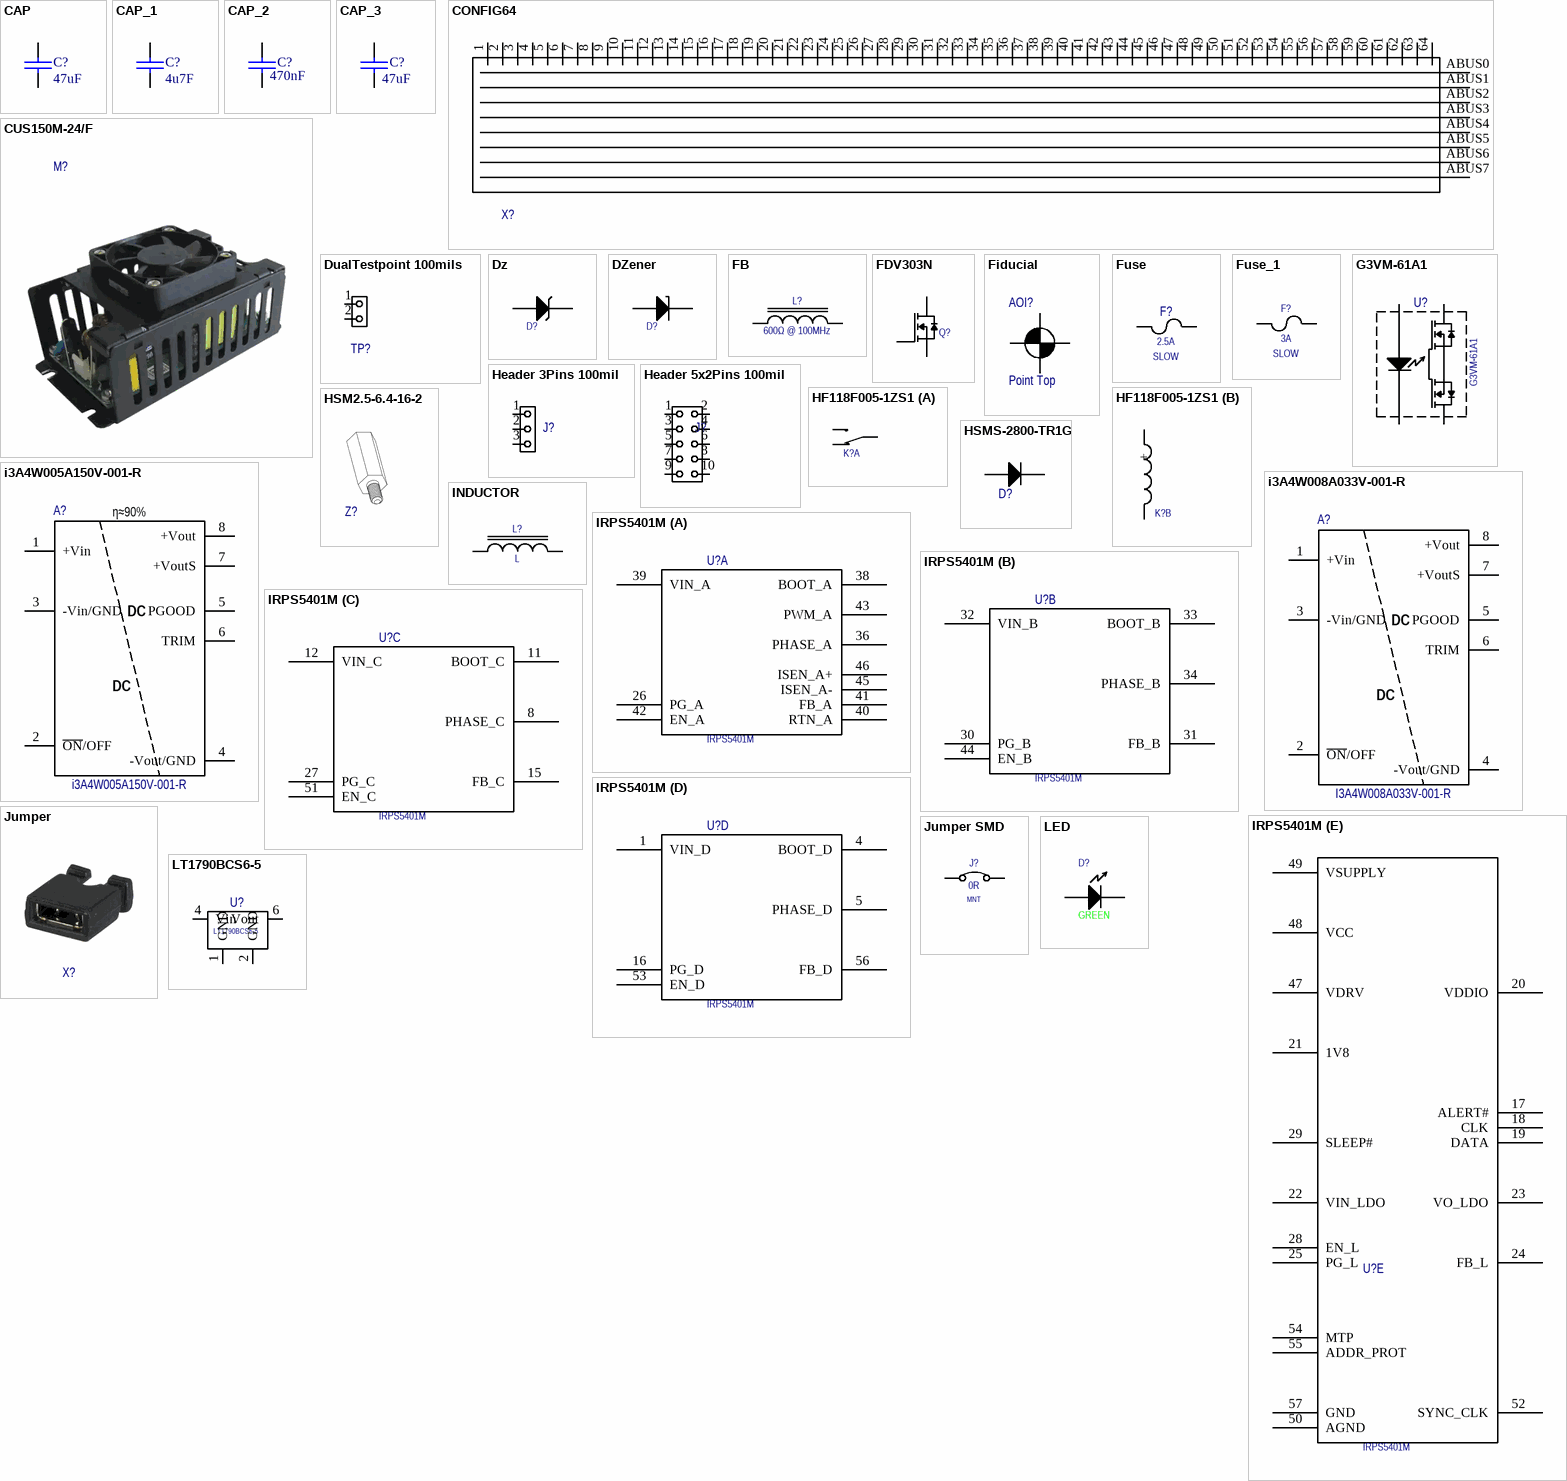
[diagram p1: symbols CAP to LT1790BCS6-5]

## CAP
designator C?, comment value 47uF  (hidden comment: C)
CAP CER 47UF 10V X5R 0805; MFR-PN: GRM32ER71A476KE15L; MFR: MURATA; MFR-TYPE: GRM series; 04. Manufacturer: Murata Electronics North America; 07. Manufacturer  Part Number: GRM21BR61A476ME15L; POPULATED: yes; Parameters: X7R, 10V, 10%; 03. Unit Price: 0.67; Tolerance: ±20%; Type: X7R; 3D-Export: No; Temperature Range: -55°C ~ 85°C; 01. Distributor: DigiKey; 02. Distributor Part Number: 490-9961-6-ND; 09. Operating Temperature: -55°C ~ 85°C; 11. RoHS: YES; Voltage Rating: 10V; ComponentLink4Description: Info; ComponentLink4URL: https://www.digikey.de/product-detail/en/murata-electronics-north-america/GRM21BR61A476ME15L/490-9961-6-ND/5027050; ComponentLink5Description: DataSheet; ComponentLink5URL: https://search.murata.co.jp/Ceramy/image/img/A01X/G101/ENG/GRM21BR61A476ME15-01.pdf
footprint C0805 (Chip Capacitor; Body 2.0x1.3mm (LxW typ), IPC High Density)
footprint C0805-1.45
signal-integrity model Cap
simulation model CAP
footprint C1210
footprint C0805 Reflow
pins: 1, 2
2 alternate drawings of the same symbol

## CAP_1
designator C?, comment value 4u7F  (hidden comment: C)
CAP CER 4.7UF 6.3V X5R 0402; 04. Manufacturer: Samsung Electro-Mechanics; 07. Manufacturer  Part Number: CL05A475KQ5NRNC; POPULATED: yes; Parameters: X7R, 6V3, 10%; 03. Unit Price: 0.28; Tolerance: 10%; Type: X7R; Voltage Rating: 6V3; 3D-Export: No; Temperature Range: -40°C/+85°C; 01. Distributor: DigiKey; 02. Distributor Part Number: 1276-1481-6-ND; 09. Operating Temperature: -55°C ~ 85°C; 11. RoHS: YES; ComponentLink4Description: DataSheet; ComponentLink4URL: https://media.digikey.com/pdf/Data%20Sheets/Samsung%20PDFs/CL_Series_MLCC_ds.pdf; ComponentLink5Description: Info; ComponentLink5URL: https://www.digikey.de/product-detail/en/samsung-electro-mechanics/CL05A475KQ5NRNC/1276-1481-6-ND/3891995
footprint C0402 (Chip Capacitor; Body 1.0x0.5mm (LxW typ), IPC High Density)
signal-integrity model Cap
simulation model CAP
footprint C0805
footprint C0402 RevOne
pins: 1, 2
2 alternate drawings of the same symbol

## CAP_2
designator C?, comment value 470nF  (hidden comment: C)
CAP CER 0.47UF 10V X5R 0402; 04. Manufacturer: Samsung Electro-Mechanics; 07. Manufacturer  Part Number: CL05A474KP5NNNC; POPULATED: yes; Parameters: X5R, 10V, 10%; 03. Unit Price: 0.09; Tolerance: 10%; 3D-Export: No; Temperature Range: -55°C ~ 85°C; 01. Distributor: DigiKey; 02. Distributor Part Number: 1276-1173-6-ND; 09. Operating Temperature: -55°C ~ 85°C; 11. RoHS: YES; Type: X5R; Voltage Rating: 10V; ComponentLink4Description: Info; ComponentLink4URL: https://www.digikey.de/product-detail/en/samsung-electro-mechanics/CL05A474KP5NNNC/1276-1173-6-ND/3891687; ComponentLink5Description: DataSheet; ComponentLink5URL: https://media.digikey.com/pdf/Data%20Sheets/Samsung%20PDFs/CL_Series_MLCC_ds.pdf
footprint C0402 (Chip Capacitor; Body 1.0x0.5mm (LxW typ), IPC High Density)
signal-integrity model Cap
simulation model CAP
footprint C0402 RevOne
pins: 1, 2
2 alternate drawings of the same symbol

## CAP_3
designator C?, comment value 47uF  (hidden comment: C)
CAP CER 47UF 10V X5R 1206; MFR-PN: GRM32ER71A476KE15L; MFR: MURATA; MFR-TYPE: GRM series; 04. Manufacturer: Samsung Electro-Mechanics; 07. Manufacturer  Part Number: CL31A476MPHNNNE; POPULATED: yes; Parameters: X7R, 10V, 10%; 03. Unit Price: 0.64; Tolerance: ±20%; Type: X7R; 3D-Export: No; Temperature Range: -55°C ~ 85°C; 01. Distributor: DigiKey; 02. Distributor Part Number: 1276-3063-6-ND; 09. Operating Temperature: -55°C ~ 85°C; 11. RoHS: YES; ComponentLink1Description: Info; ComponentLink1URL: https://www.digikey.de/product-detail/en/murata-electronics-north-america/GRM32EC70J107ME15L/490-10530-6-ND/5027076; Voltage Rating: 10V; ComponentLink4Description: Info; ComponentLink4URL: https://www.digikey.de/product-detail/en/samsung-electro-mechanics/CL31A476MPHNNNE/1276-3063-6-ND/3893578; ComponentLink5Description: DataSheet; ComponentLink5URL: https://media.digikey.com/pdf/Data%20Sheets/Samsung%20PDFs/CL_Series_MLCC_ds.pdf
footprint C1206 (Chip Capacitor; Body 3.2x1.6mm (LxW typ), IPC High Density)
footprint C1206-2.7
signal-integrity model Cap
simulation model CAP
footprint C1210
footprint C1206 Reflow
pins: 1, 2
2 alternate drawings of the same symbol

## CONFIG64
designator X?, comment X  (value not drawn)  (no BOM)
PCB Tester Configuration Matrix for 48 Relays over 8 ABUSes; 13. Created Date/Name: ??? / Hören; ComponentLink1Description: Info; ComponentLink2Description: DataSheet
footprint CONFIG64 (PCB Tester Configuration area (64 relays))
pins: 1, 2, 3, 4, 5, 6, 7, 8, 9, 10, 11, 12, 13, 14, 15, 16, 17, 18, 19, 20, 21, 22, 23, 24, 25, 26, 27, 28, 29, 30, 31, 32, 33, 34, 35, 36, 37, 38, 39, 40, 41, 42, 43, 44, 45, 46, 47, 48, 49, 50, 51, 52, 53, 54, 55, 56, 57, 58, 59, 60, 61, 62, 63, 64, ABUS0, ABUS1, ABUS2, ABUS3, ABUS4, ABUS5, ABUS6, ABUS7

## CUS150M-24/F
designator M?  (value not drawn)
AC DC CONVERTER 85~264VAC --> 24VDC (6A); 04. Manufacturer: TDK-Lambda Americas Inc.; 07. Manufacturer  Part Number: CUS150M24/F; 03. Unit Price: 87.85; 13. Created Date/Name: AUG 2018 / Hören; 01. Distributor: DigiKey; 02. Distributor Part Number: 285-3030-ND; 09. Operating Temperature: -20°C ~ 85°C; 11. RoHS: YES; ComponentLink1Description: Info; ComponentLink1URL: https://www.digikey.de/product-detail/en/tdk-lambda-americas-inc/CUS150M24-F/285-3030-ND/7695382?cur=EUR&lang=en; ComponentLink2Description: DataSheet; ComponentLink2URL: https://product.tdk.com/info/en/catalog/datasheets/cus150m_e.pdf

## DualTestpoint 100mils
designator TP?, comment TP  (value not drawn)  (no BOM)
Dual testpoint, pitch 2.54mm; 04. Manufacturer: Samtec Inc.; 07. Manufacturer  Part Number: HMTSW-103-07-G-S-240; 03. Unit Price: 0.25; 13. Created Date/Name: AUG2018/Hören; 01. Distributor: Samtec Inc.; 02. Distributor Part Number: HMTSW-103-07-G-S-240; 11. RoHS: YES; ComponentLink1Description: Info; ComponentLink1URL: https://www.samtec.com/products/hmtsw-103-07-g-s-240; ComponentLink2Description: DataSheet; ComponentLink2URL: http://suddendocs.samtec.com/catalog_english/hmtsw.pdf
footprint DualTestpoint 100mils (Testpoint)
pins: 1, 2

## Dz
designator D?, comment D  (value not drawn)
DIODE SCHOTTKY 40V 5A SOD128; 04. Manufacturer: Nexperia USA Inc.; 07. Manufacturer  Part Number: PMEG4050EP,115; 03. Unit Price: 0.45; 13. Created Date/Name: AUG2018/Hören; 3D-Export: No; 01. Distributor: DigiKey; 02. Distributor Part Number: 1727-5842-6-ND; 09. Operating Temperature: <150°C; 11. RoHS: YES; ComponentLink1Description: Info; ComponentLink1URL: https://www.digikey.de/product-detail/en/nexperia-usa-inc/PMEG4050EP115/1727-5842-6-ND/2697559; ComponentLink2Description: DataSheet; ComponentLink2URL: https://assets.nexperia.com/documents/data-sheet/PMEG4050EP.pdf
footprint SOD128 (PMEG4050EP,115)
pins: 1 A, 2 C

## DZener
designator D?, comment D  (value not drawn)
13. Created Date/Name: AUG2018/Hören; 3D-Export: No; 01. Distributor: DigiKey; 11. RoHS: YES; ComponentLink1Description: Info; ComponentLink2Description: DataSheet
footprint SOD323
pins: 1 A, 2 C

## FB
designator L?, comment Nominal Impedance: 600Ω @ 100MHz  (hidden comment: L)
FERRITE BEAD 600 OHM 0805 1LN; 04. Manufacturer: Würth Elektronik; 07. Manufacturer  Part Number: 742792040; DCR: 150mΩ; Impedance Tolerance: %; 03. Unit Price: 0.22; 13. Created Date/Name: AUG2018/Hören; IRMS: 2A; ComponentLink1Description: Info; ComponentLink1URL: https://www.digikey.de/products/en?keywords=732-1620-6-ND; ComponentLink2Description: DataSheet; ComponentLink2URL: https://www.we-online.de/katalog/datasheet/742792040.pdf; 02. Distributor Part Number: 732-1620-6-ND; 09. Operating Temperature: -55°C ~ 125°C; 11. RoHS: YES; 01. Distributor: DigiKey; ISAT: *; Package: 0805; Tolerance: *; Value: *
footprint FB0603 (SMT Ferrite Bead 0603)
footprint FB0805 (SMT Ferrite Bead 0805)
footprint FB1206 (SMT Ferrite Bead 1206)
pins: 1, 2

## FDV303N
designator Q?, comment Q  (value not drawn)
MOSFET N-CH 25V 680MA SOT-23; 04. Manufacturer: ON Semiconductor; 07. Manufacturer  Part Number: FDV303N; 03. Unit Price: 0.41; 13. Created Date/Name: AUG 2018 / Hören; Rds On: 450 mΩ @ id=500mA & Vgs=4.5V; Vgs,th: 1.5V @ 250uA; Power Rating: 350mW; 3D-Export: No; 01. Distributor: DigiKey; 02. Distributor Part Number: FDV303NDKR-ND; 09. Operating Temperature: -55°C ~ 150°C (TJ); 11. RoHS: YES; ComponentLink1Description: Info; ComponentLink1URL: https://www.digikey.de/product-detail/en/on-semiconductor/FDV303N/FDV303NDKR-ND/1630434; ComponentLink2Description: DataSheet; ComponentLink2URL: https://media.digikey.com/pdf/Data%20Sheets/Fairchild%20PDFs/FDV303N.pdf; Vdss: 25V; Id: 680mA
footprint SOT23-3
pins: 1 G, 2 S, 3 D

## Fiducial
designator AOI?, comment Shape: Point Top  (hidden comment: AOI)  (no BOM)
Assembly AOI; 13. Created Date/Name: AUG2018/Hören; 01. Distributor: N/A; 02. Distributor Part Number: N/A; 03. Unit Price: N/A; 04. Manufacturer: N/A; 05. Quantity: N/A; 06. Data Sheet: N/A; 07. Manufacturer  Part Number: N/A; 08. Inhouse Stock: N/A; 09. Operating Temperature: N/A; 10. Weight: N/A; 11. RoHS: N/A; 12.UL94 Flammability: N/A; ComponentLink1Description: Info; ComponentLink2Description: Info
footprint Fiducial Cross
footprint Fiducial Point

## Fuse
designator F?, comment value 2.5A  Speed: SLOW  (hidden comment: F)
FUSE BRD MNT 2.5A 125VAC/VDC SMD; 04. Manufacturer: Littelfuse Inc.; 07. Manufacturer  Part Number: 015402.5DRT; 03. Unit Price: 2.75; 13. Created Date/Name: AUG 2018 / Hören; 3D-Export: No; 01. Distributor: DigiKey; 02. Distributor Part Number: F1306DKR-ND; 09. Operating Temperature: -55°C ~ 125°C; 11. RoHS: YES; ComponentLink1Description: Info; ComponentLink1URL: https://www.digikey.de/products/en/circuit-protection/fuses/139?k=&pkeyword=&sv=0&pv7=243&sf=0&FV=ffec3b86%2Cffec4f0c%2Cffec8a72%2Cffec8a73%2Cfffc0012%2C55c00d7%2C1f140000%2Cffe0008b%2Cmu2.5A%7C2088&quantity=&ColumnSort=0&page=1&pageSize=25; ComponentLink2Description: DataSheet; ComponentLink2URL: https://www.littelfuse.com/~/media/electronics/datasheets/fuses/littelfuse_fuse_154_154t_154l_154tl_datasheet.pdf.pdf
footprint OMNI-Fuse (SMD2 Fuse Clip)
pins: 1, 2